# EAGLE library part TXB0104 (library esbd-chips)
4-Bit Bi-Directional Level Shifter Texas Instruments 1.2V-3.6V (VCCA) to 1.65V-5.5V (VCCB) bi-directional level shifter with auto direction sensing.
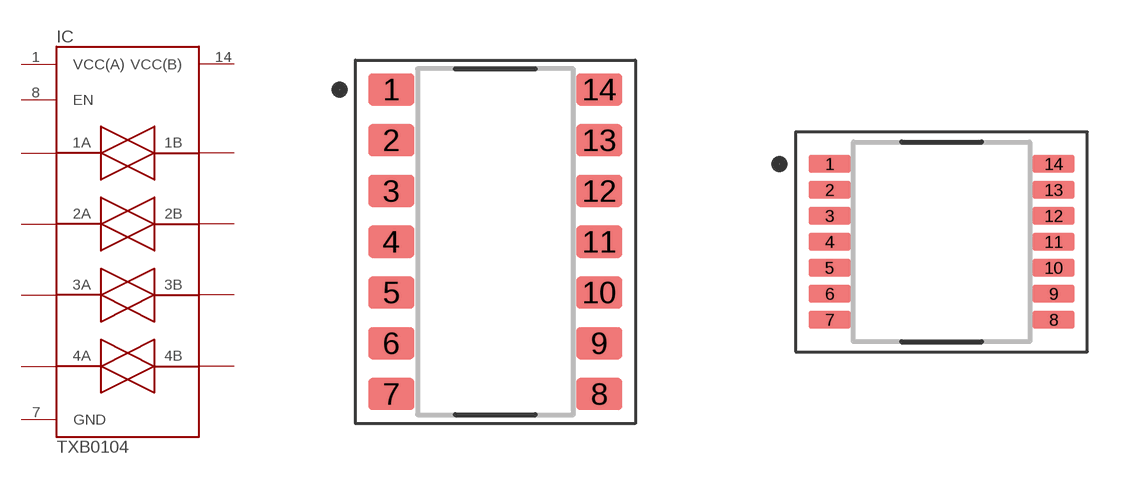
[diagram p27: symbol with the pads of SOIC14_3.90X8.65MM; footprints SOIC14_3.90X8.65MM, SOP14_4.40X5.00MM]

Designator prefix IC

## TXB0104D  [SOIC14_3.90X8.65MM]
1  VCC(A)  pwr
2  1A
3  2A
4  3A
5  4A
7  GND  pwr
8  EN  in
10  4B
11  3B
12  2B
13  1B
14  VCC(B)  pwr

## TXB0104PW  [SOP14_4.40X5.00MM]
Pads as for SOIC14_3.90X8.65MM

## Footprint SOIC14_3.90X8.65MM (pad centres in mm)
https://www.analog.com/media/en/package-pcb-resources/package/pkg_pdf/ltc-legacy-soic/05081610_G_S14.pdf
smd 1.15 x 0.8: 1 -2.6,3.81; 2 -2.6,2.54; 3 -2.6,1.27; 4 -2.6,0; 5 -2.6,-1.27; 6 -2.6,-2.54; 7 -2.6,-3.81; 8 2.6,-3.81; 9 2.6,-2.54; 10 2.6,-1.27; 11 2.6,0; 12 2.6,1.27; 13 2.6,2.54; 14 2.6,3.81

## Footprint SOP14_4.40X5.00MM (pad centres in mm)
https://www.analog.com/media/en/package-pcb-resources/package/pkg_pdf/ltc-legacy-tssop/TSSOP_14_05-08-1650.pdf
smd 1.05 x 0.45: 1 -2.8,1.95; 2 -2.8,1.3; 3 -2.8,0.65; 4 -2.8,0; 5 -2.8,-0.65; 6 -2.8,-1.3; 7 -2.8,-1.95; 8 2.8,-1.95; 9 2.8,-1.3; 10 2.8,-0.65; 11 2.8,0; 12 2.8,0.65; 13 2.8,1.3; 14 2.8,1.95